# Altium schematic symbol library LCD12864.SchLib: 1 symbol
Pins are listed as number, name and electrical type; pins without a type are passive.

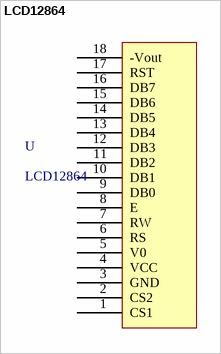
[diagram p0: symbol LCD12864]

## LCD12864
designator U
footprint SIL-20 (SIP; 20 Leads; Body 50.8 x 8.4 mm (LxW typ); Pitch 2.54 mm)
pins: 1 CS1, 2 CS2, 3 GND, 4 VCC, 5 V0, 6 RS, 7 RW, 8 E, 9 DB0, 10 DB1, 11 DB2, 12 DB3, 13 DB4, 14 DB5, 15 DB6, 16 DB7, 17 RST, 18 -Vout